# Altium schematic symbol library TPS7A4001DGNR.Schlib: 1 symbol
Pins are listed as number, name and electrical type; pins without a type are passive.

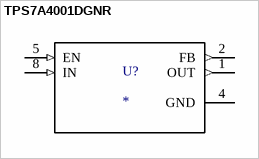
[diagram p0: symbol TPS7A4001DGNR]

## TPS7A4001DGNR
designator U?
50-mA, 100-V, low-IQ, adjustable low-dropout voltage regulator with enable 8-HVSSOP -40 to 125
pins: 1 OUT (out), 2 FB (out), 4 GND (power), 5 EN (in), 8 IN (in)